# Altium footprint library 5.1V Zener Diode.PcbLib: 1 footprints
Each footprint in its own frame and in the unit in brackets; x right, y up, seen from the top. Pads: shape width x height; smd on the part's side, far side on the other; paste and mask are expansions set on the pad; w line width, h text height; cw(c..) or ccw(c..) is an arc to the next point about the centre after c.
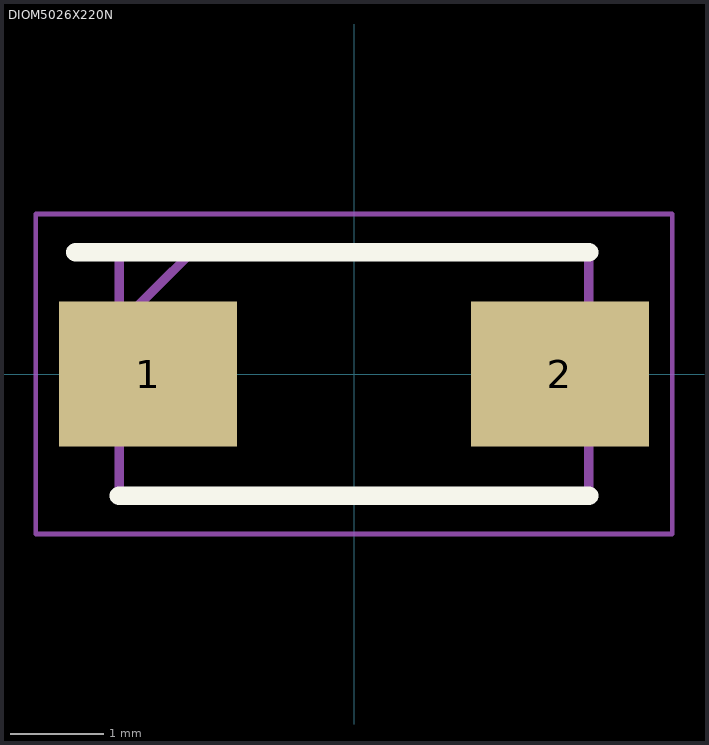
[diagram p0: the footprint, top view; thin cyan lines are the x and y axes]

## DIOM5026X220N [mm]
pads (2):
  rect 1.9x1.55 smd: 1(-2.2,0) 2(2.2,0)
Top Overlay:
  lines w0.2: -2.975,1.302 2.51,1.302 ; -2.51,-1.302 2.51,-1.302
Mechanical 13:
  lines w0.1: -2.51,0.528 -1.735,1.302 ; -2.51,-1.302 2.51,-1.302 2.51,1.302 -2.51,1.302 -2.51,-1.302
Mechanical 15:
  lines w0.05: -3.4,-1.71 3.4,-1.71 3.4,1.71 -3.4,1.71 -3.4,-1.71
3D body "1SMA5918BT3G.stp": height 2.2, standoff 0, extent -2.51,-1.302 2.51,1.302